# Altium footprint library ESQT-105-02-GF-D-800.PcbLib: 1 footprints
Each footprint in its own frame and in the unit in brackets; x right, y up, seen from the top. Pads: shape width x height; smd on the part's side, far side on the other; paste and mask are expansions set on the pad; w line width, h text height; cw(c..) or ccw(c..) is an arc to the next point about the centre after c.
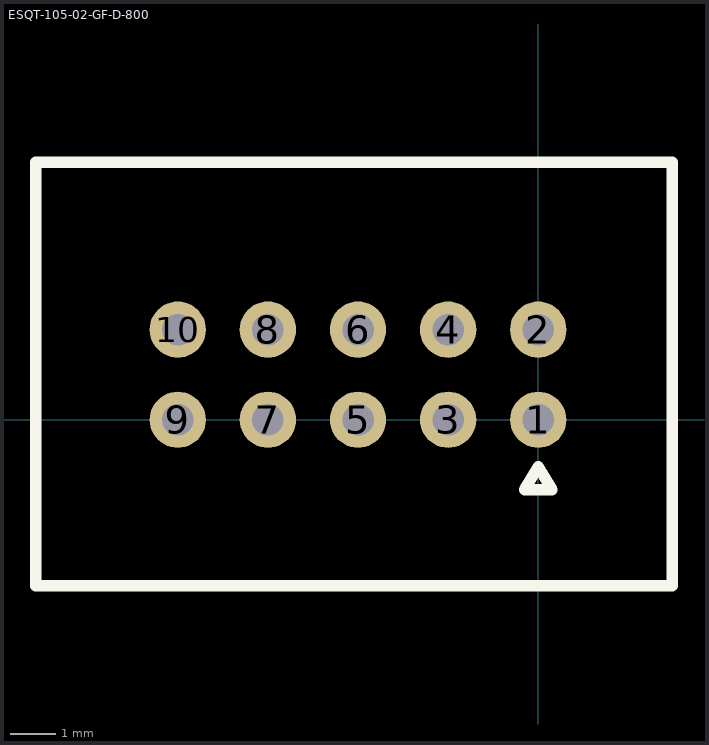
[diagram p0: the footprint, top view; thin cyan lines are the x and y axes]

## ESQT-105-02-GF-D-800 [mm] "10-pin 2mm pitch tall header"
pads (10):
  round 1.25 hole 0.7: 1(0,0) 2(0,2) 3(-2,0) 4(-2,2) 5(-4,0) 6(-4,2) 7(-6,0) 8(-6,2) 9(-8,0) 10(-8,2)
Top Overlay:
  lines w0.254: -11.151,-3.683 2.972,-3.683 2.972,5.715 -11.151,5.715 -11.151,-3.683 ; -0.305,-1.549 0,-1.041 0.305,-1.549 0.254,-1.549 -0.305,-1.549
3D body: height 20.32, standoff -1.27, extent -9.14,-1.003 1.157,2.997